# EAGLE library part CH340E (library parts_footprints)
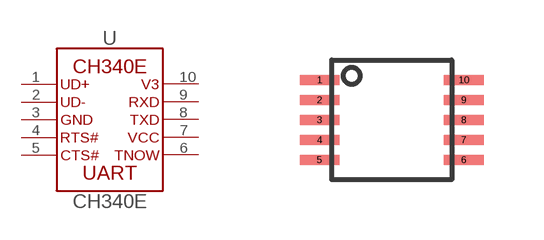
[diagram p2: symbol with the pads of MSOP-10; footprint MSOP-10]

Designator prefix -

## CH340E  [MSOP-10]
1  1
2  2
3  3
4  4
5  5
6  6
7  7
8  8
9  9
10  10

## Footprint MSOP-10 (pad centres in mm)
smd 0.99 x 0.25: 1 -1.805,1; 2 -1.805,0.5; 3 -1.805,0; 4 -1.805,-0.5; 5 -1.805,-1; 6 1.805,-1; 7 1.805,-0.5; 8 1.805,0; 9 1.805,0.5; 10 1.805,1